# Altium footprint library Feather RP2040.PcbLib: 1 footprints
Each footprint in its own frame and in the unit in brackets; x right, y up, seen from the top. Pads: shape width x height; smd on the part's side, far side on the other; paste and mask are expansions set on the pad; w line width, h text height; cw(c..) or ccw(c..) is an arc to the next point about the centre after c.
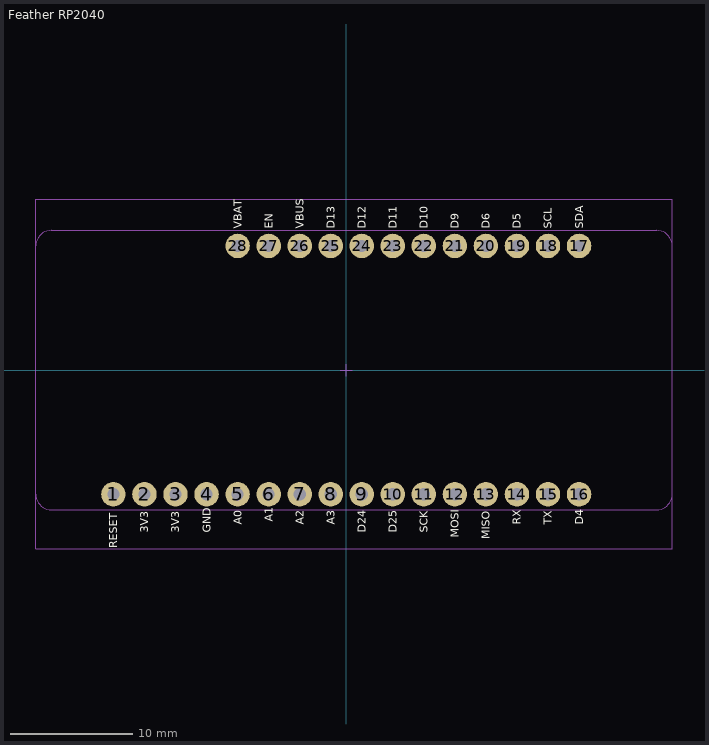
[diagram p0: the footprint, top view; thin cyan lines are the x and y axes]

## Feather RP2040 [mm]
pads (28):
  round 2 hole 1: 1(-19.05,-10.16) 2(-16.51,-10.16) 3(-13.97,-10.16) 4(-11.43,-10.16) 5(-8.89,-10.16) 6(-6.35,-10.16) 7(-3.81,-10.16) 8(-1.27,-10.16) 9(1.27,-10.16) 10(3.81,-10.16) 11(6.35,-10.16) 12(8.89,-10.16) 13(11.43,-10.16) 14(13.97,-10.16) 15(16.51,-10.16) 16(19.05,-10.16) 17(19.05,10.16) 18(16.51,10.16) 19(13.97,10.16) 20(11.43,10.16) 21(8.89,10.16) 22(6.35,10.16) 23(3.81,10.16) 24(1.27,10.16) 25(-1.27,10.16) 26(-3.81,10.16) 27(-6.35,10.16) 28(-8.89,10.16)
Top Overlay:
  text "RX" at 14.295,-12.638 h0.65
  text "MISO" at 11.755,-13.829 h0.65
  text "MOSI" at 9.215,-13.721 h0.65
  text "D4" at 19.375,-12.638 h0.65
  text "D6" at 11.755,11.555 h0.65
  text "D12" at 1.595,11.555 h0.65
  text "VBAT" at -8.565,11.555 h0.65
  text "D11" at 4.135,11.555 h0.65
  text "D10" at 6.675,11.555 h0.65
  text "D9" at 9.215,11.555 h0.65
  text "D5" at 14.295,11.555 h0.65
  text "SCL" at 16.835,11.555 h0.65
  text "SDA" at 19.375,11.555 h0.65
  text "EN" at -6.025,11.555 h0.65
  text "VBUS" at -3.485,11.555 h0.65
  text "D13" at -0.945,11.555 h0.65
  text "A3" at -0.945,-12.638 h0.65
  text "SCK" at 6.675,-13.288 h0.65
  text "TX" at 16.835,-12.638 h0.65
  text "D25" at 4.135,-13.288 h0.65
  text "D24" at 1.595,-13.288 h0.65
  text "A2" at -3.485,-12.638 h0.65
  text "A1" at -6.025,-12.421 h0.65
  text "A0" at -8.565,-12.638 h0.65
  text "GND" at -11.105,-13.288 h0.65
  text "3V3" at -13.645,-13.288 h0.65
  text "3V3" at -16.185,-13.288 h0.65
  text "RESET" at -18.725,-14.587 h0.65
Mechanical 1:
  circle w0.1: c-8.89,10.16 r0.5
  circle w0.1: c-6.35,10.16 r0.5
  circle w0.1: c-3.81,10.16 r0.5
  circle w0.1: c-1.27,10.16 r0.5
  circle w0.1: c1.27,10.16 r0.5
  circle w0.1: c3.81,10.16 r0.5
  circle w0.1: c6.35,10.16 r0.5
  circle w0.1: c8.89,10.16 r0.5
  circle w0.1: c11.43,10.16 r0.5
  circle w0.1: c13.97,10.16 r0.5
  circle w0.1: c16.51,10.16 r0.5
  circle w0.1: c19.05,10.16 r0.5
  circle w0.1: c19.05,-10.16 r0.5
  circle w0.1: c16.51,-10.16 r0.5
  circle w0.1: c13.97,-10.16 r0.5
  circle w0.1: c11.43,-10.16 r0.5
  circle w0.1: c8.89,-10.16 r0.5
  circle w0.1: c6.35,-10.16 r0.5
  circle w0.1: c3.81,-10.16 r0.5
  circle w0.1: c1.27,-10.16 r0.5
  circle w0.1: c-1.27,-10.16 r0.5
  circle w0.1: c-3.81,-10.16 r0.5
  circle w0.1: c-6.35,-10.16 r0.5
  circle w0.1: c-8.89,-10.16 r0.5
  circle w0.1: c-11.43,-10.16 r0.5
  circle w0.1: c-13.97,-10.16 r0.5
  circle w0.1: c-16.51,-10.16 r0.5
  circle w0.1: c-19.05,-10.16 r0.5
  lines w0.1: -25.4,-10.16 ccw(c-24.13,-10.16) -24.13,-11.43 25.4,-11.43 ccw(c25.4,-10.16) 26.67,-10.16 26.67,10.16 ccw(c25.4,10.16) 25.4,11.43 -24.13,11.43 ccw(c-24.13,10.16) -25.4,10.16 -25.4,-10.16
  text "VBAT" at -8.565,5.112 h0.65
  text "EN" at -6.025,6.412 h0.65
  text "VBUS" at -3.485,5.112 h0.65
  text "D13" at -0.945,5.871 h0.65
  text "D12" at 1.595,5.871 h0.65
  text "D11" at 4.135,6.087 h0.65
  text "D10" at 6.675,5.871 h0.65
  text "D9" at 9.215,6.412 h0.65
  text "D6" at 11.755,6.412 h0.65
  text "D5" at 14.295,6.412 h0.65
  text "SCL" at 16.835,5.762 h0.65
  text "SDA" at 19.375,5.762 h0.65
  text "TX" at 16.835,-7.495 h0.65
  text "RX" at 14.295,-7.495 h0.65
  text "MISO" at 11.755,-7.495 h0.65
  text "MOSI" at 9.215,-7.495 h0.65
  text "SCK" at 6.675,-7.495 h0.65
  text "D25" at 4.135,-7.495 h0.65
  text "D24" at 1.595,-7.495 h0.65
  text "A3" at -0.945,-7.495 h0.65
  text "A2" at -3.485,-7.495 h0.65
  text "A1" at -6.025,-7.495 h0.65
  text "A0" at -8.565,-7.495 h0.65
  text "D4" at 19.375,-7.495 h0.65
  text "GND" at -11.105,-7.495 h0.65
  text "3V3" at -13.645,-7.495 h0.65
  text "3V3" at -16.185,-7.495 h0.65
  text "RESET" at -18.725,-7.495 h0.65
  text ".Designator" at -3.294,-0.269 h0.65
Mechanical 2:
  lines w0.1: -0.5,0 0.5,0 ; 0,-0.5 0,0.5 ; -25.4,-14.605 -25.4,13.97 26.67,13.97 26.67,-14.605 -25.4,-14.605
3D body "CES-116-01-L-S.stp": height 5.08, standoff -3.25, extent -20.32,-11.684 20.32,-8.636
3D body "5712 Feather RP2040 RFM69.step": height 11.52, standoff 5.15, extent -25.306,-11.45 26.67,11.41
3D body "CES-112-01-L-S.stp": height 5.08, standoff -3.25, extent -10.16,8.636 20.32,11.684